# Altium footprint library LV1.PcbLib: 60 footprints (part 3 of 4)
Each footprint in its own frame and in the unit in brackets; x right, y up, seen from the top. Pads: shape width x height; smd on the part's side, far side on the other; paste and mask are expansions set on the pad; w line width, h text height; cw(c..) or ccw(c..) is an arc to the next point about the centre after c.
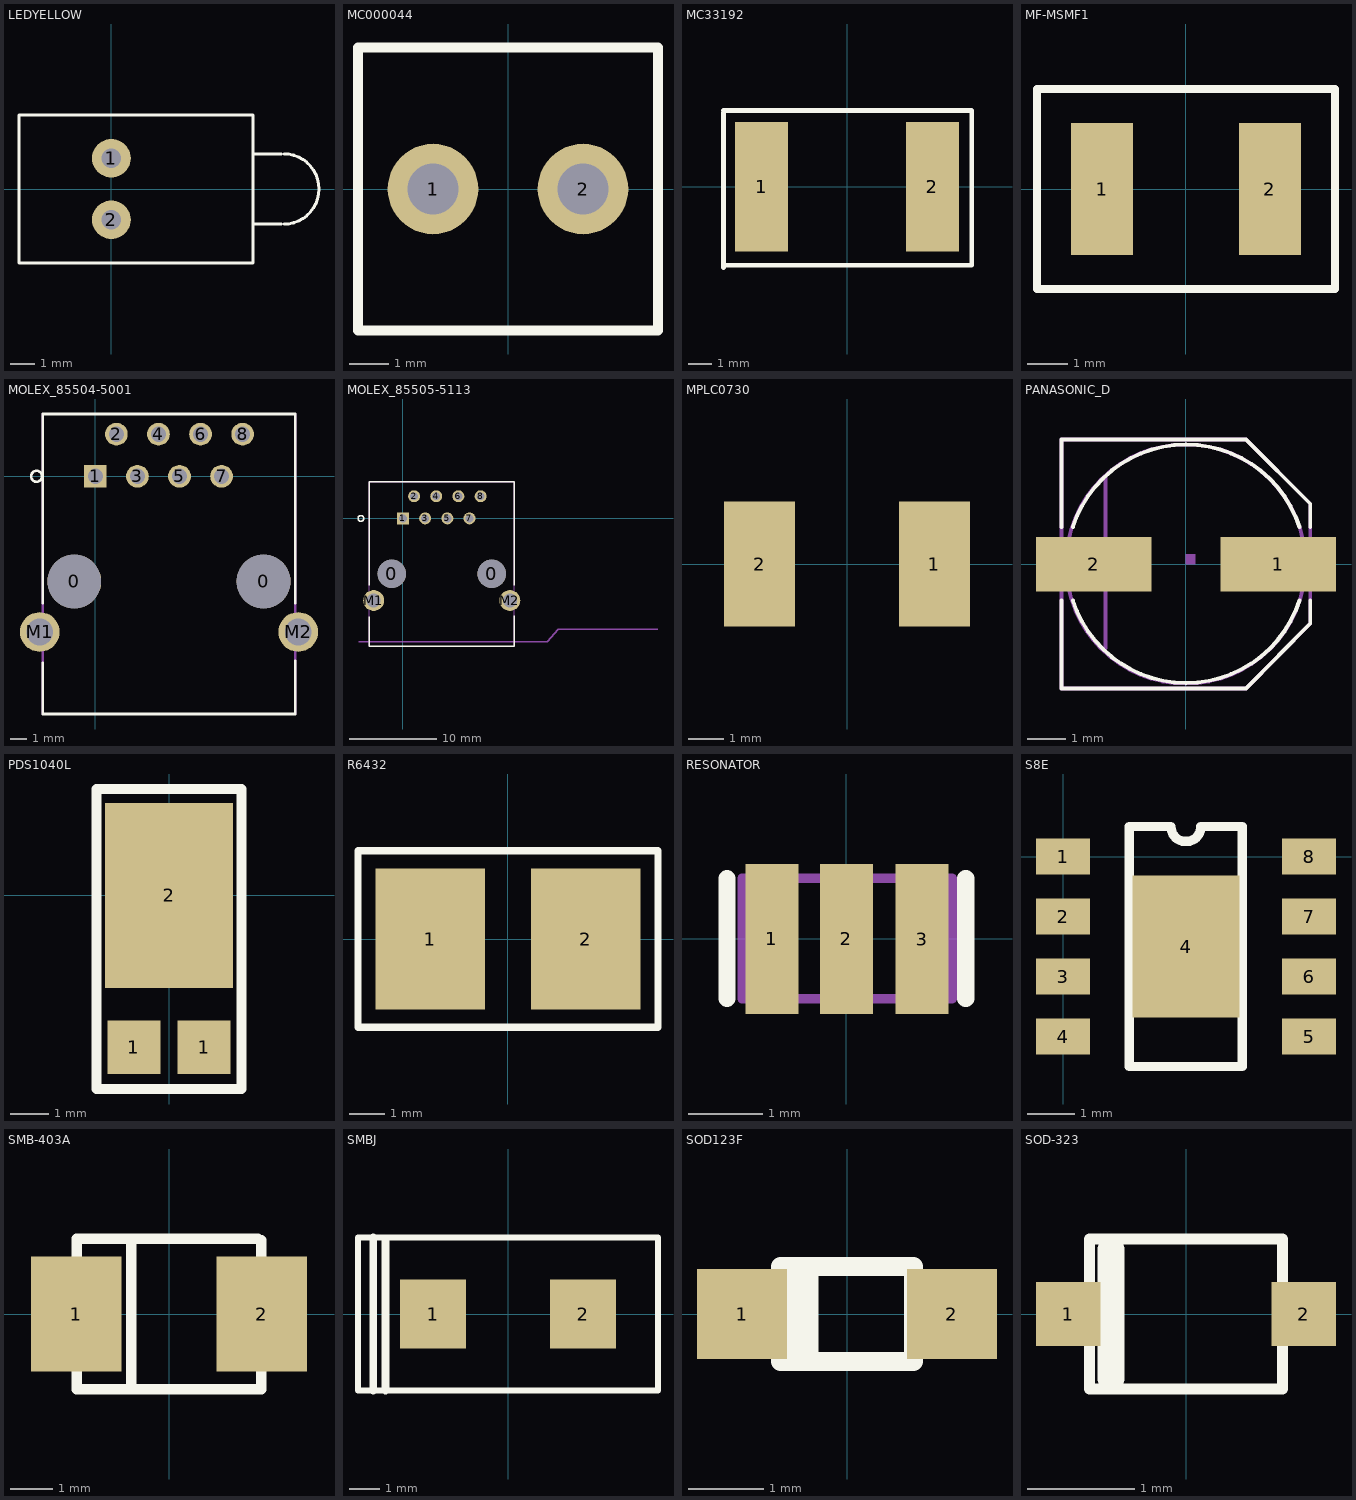
[diagram p2: the footprints below, top view; thin cyan lines are the x and y axes]

## LEDYELLOW [mm] "LED; 2 Leads"
pads (2):
  round 1.6 hole 0.8: 1(0,1.27) 2(0,-1.27)
Top Overlay:
  lines w0.127: 5.924,-1.45 7.024,-1.45 ; 5.924,1.45 7.024,1.45 ; 7.112,-1.45 ccw(c7.112,0) 7.112,1.45 ; -3.81,-3.048 5.842,-3.048 5.842,3.048 -3.81,3.048 -3.81,-3.048
3D body "5500407F_yellow.stp": height 5.97, standoff -3.68, extent -3.758,-3.048 8.636,2.921

## MC000044 [mm]
height 7.12
pads (2):
  round 2.3 hole 1.3: 1(-1.905,0) 2(1.905,0)
Top Overlay:
  lines w0.254: -3.81,-3.6 -3.81,3.6 3.81,3.6 3.81,-3.6 -3.81,-3.6

## MC33192 [mm]
pads (2):
  rect 2.3x5.6 smd: 1(-3.7,0) 2(3.7,0)
Top Overlay:
  lines w0.2: -5.35,-3.5 -5.35,-0.1 -5.35,3.2 ; -5.35,-3.4 5.4,-3.4 5.4,3.3 -5.35,3.3
3D body: height 0.5, standoff 0, extent -2.7,-2.8 2.7,2.8
3D body: height 0.5, standoff 0, extent -4.4,-2.8 -2.7,2.8
3D body: height 0.5, standoff 0, extent 2.7,-2.8 4.4,2.8

## MF-MSMF1 [mm]
height 7.12
pads (2):
  rect 1.55x3.3 smd: 1(-2.1,0) 2(2.1,0)
Top Overlay:
  lines w0.2: -3.725,-2.5 3.725,-2.5 3.725,2.5 -3.725,2.5 -3.725,0 -3.725,-2.5
3D body: height 0.5, standoff 0, extent -2.5,-1.6 -1.9,1.6
3D body: height 0.5, standoff 0, extent 1.9,-1.6 2.5,1.6
3D body: height 0.5, standoff 0, extent -2.1,-1.6 2.1,1.6

## MOLEX_85504-5001 [mil]
pads (12):
  round 128 hole 128: 0(-50,-250) 0(400,-250)
  rect 54x54 hole 36: 1(0,0)
  round 54 hole 36: 2(50,100) 3(100,0) 4(150,100) 5(200,0) 6(250,100) 7(300,0) 8(350,100)
  round 94.5 hole 63: M1(-131.89,-370.08) M2(482,-370.08)
Top Overlay:
  circle w6: c-139.76,0 r13
  lines w6: -125,-442.91 -125,-564.96 475,-564.96 475,-438.98 ; -125,-301.18 -125,148 -118.11,148 ; -120.08,148 -118.11,148 ; 475,-301.18 475,148 -118.11,148
Mechanical 2:
  text ">Name" at 44,180 h77.5
Mechanical 4:
  text ">Value" at 56,-637.8 h77.5
Mechanical 16:
  lines w5: -125,-564.96 -125,148 475,148 475,-564.96 -125,-564.96
3D body "855055113.stp": height 511.81, standoff -129.92, extent -156.77,-580.16 496.77,160

## MOLEX_85505-5113 [mil]
pads (12):
  round 128 hole 128: 0(-50,-250) 0(400,-250)
  rect 54x54 hole 36: 1(0,0)
  round 54 hole 36: 2(50,100) 3(100,0) 4(150,100) 5(200,0) 6(250,100) 7(300,0) 8(350,100)
  round 94.5 hole 63: M1(-131.89,-370.08) M2(482,-370.08)
Top Overlay:
  circle w6: c-189.76,0 r13
  lines w6: -151.77,-442.91 -151.77,-575.98 502,-575.98 502,-438.98 ; -151.77,-301.18 -151.77,165 -118.11,165 502,165 502,-301.18
Mechanical 2:
  text ">Name" at 44,180 h77.5
Mechanical 4:
  text ">Value" at 56,-637.8 h77.5
Mechanical 14:
  lines w6: -200,-557.09 650,-557.09 700,-500 1150,-500
  text "PCB Edge" at 750,-500 h77.5
Mechanical 16:
  lines w5: -151.77,-575.98 -151.77,165 502,165 502,-575.98 -151.77,-575.98
3D body "855055113.stp": height 511.81, standoff -129.92, extent -148.54,-580.08 505,160.08

## MPLC0730 [mm]
height 7.12
pads (2):
  rect 2x3.5 smd: 1(2.45,0) 2(-2.45,0)
3D body: height 2, standoff 0, extent -3.175,-2.667 3.175,2.794

## PANASONIC_D [mil]
height 280.31
pads (2):
  rect 119x56 smd: 1(95,0) 2(-94.49,0)
Top Overlay:
  lines w4: -127.95,-37.4 -127.95,-127.95 62,-127.95 128,-61.02 128,-37.4 ; -127.95,38 -127.95,128 62,128 128,62 128,38 ; -116.14,-37.4 ccw(c0.43,0.14) 117,-37.4 ; -116.14,38 cw(c0.43,0.46) 117,38
Mechanical 16:
  circle w4: c0,0 r123
  rectangle: -143.7,-13.78 -120.08,14
  rectangle: 121,-13.78 144,14
  region: 0,0 10,0 10,10 0,10
  lines w4: -82.68,-86.61 -82.68,89 ; -127.95,-127.95 62,-127.95 128,-61.02 128,62 62,128 -127.95,128 -127.95,-127.95
3D body: height 236.22, standoff 39.37, extent -119.68,-117.88 115.61,117.88
3D body: height 39.37, standoff 0, extent -130,-125 125,125

## PDS1040L [mm]
height 7.12
pads (3):
  rect 1.39x1.4 smd: 1(-0.92,-3.982) 1(0.92,-3.982)
  rect 3.36x4.86 smd: 2(0,0)
Top Overlay:
  lines w0.254: -1.905,-5.08 1.905,-5.08 1.905,2.794 -1.905,2.794 -1.905,-5.08
3D body: height 0.1, standoff 0, extent -1.397,0.762 1.397,2.286
3D body: height 0.1, standoff 0, extent -1.397,-4.064 -0.381,-2.032
3D body: height 0.1, standoff 0, extent 0.381,-4.064 1.397,-2.032
3D body: height 1, standoff 0, extent -1.524,-3.429 1.524,1.524

## R6432 [mm]
height 7.12
pads (2):
  rect 3.1x4 smd: 1(-2.2,0) 2(2.2,0)
Top Overlay:
  lines w0.2: -4.25,-2.5 4.25,-2.5 4.25,2.5 -4.25,2.5 -4.25,0 -4.25,-2.5
3D body: height 0.5, standoff 0, extent -3.2,-2 3.3,2

## RESONATOR [mil]
height 338.58
pads (3):
  rect 28x79 smd: 1(-39.37,0) 2(0,0) 3(40,0)
Top Overlay:
  lines w9: -62.99,-31.5 -62.99,32 ; 63,-31.5 63,32
Mechanical 16:
  lines w5: -55.12,-31.5 -55.12,32 56,32 56,-31.5 -55.12,-31.5

## S8E [mil]
height 338.58
pads (9):
  rect 45x30 smd: 1(0,0) 2(0,-50) 3(0,-100) 4(0,-150) 5(205,-150) 6(205,-100) 7(205,-50) 8(205,0)
  rect 89x118 smd: 4(102.5,-75)
Top Overlay:
  lines w7.87: 55.37,-175 55.37,25 89.92,25 ccw(c102.42,25) 114.92,25 149.47,25 149.47,-175 55.37,-175

## SMB-403A [mil]
pads (2):
  rect 85x107.99 smd: 1(-87.01,0) 2(87.01,0)
Top Overlay:
  lines w10: -86.61,-70.87 -86.61,69.29 ; -86.61,70.87 83.46,70.87 ; -83.46,-70.87 86.61,-70.87 86.61,69.29 ; -35.43,-70.87 -35.43,70.87
3D body: height 78.74, standoff 0, extent -82.68,-74.8 90.55,66.93

## SMBJ [mm]
pads (2):
  rect 2.16x2.26 smd: 1(-2.45,0) 2(2.45,0)
Top Overlay:
  lines w0.2: -4.9,-2.5 -4.9,0 -4.9,2.5 4.9,2.5 4.9,-2.5 -4.9,-2.5
  lines w0.254: -4.4,-2.5 -4.4,2.5 ; -4,-2.5 -4,2.4
3D body: height 2, standoff 0, extent -2.8,-2 2.9,2
3D body: height 0.5, standoff 0, extent -3.2,-1.1 -2.8,1.1
3D body: height 0.5, standoff 0, extent 2.9,-1.1 3.3,1.1

## SOD123F [mm]
height 7.12
pads (2):
  rect 1.2x1.2 smd: 1(-1.4,0) 2(1.4,0)
Top Overlay:
  rectangle: -1.016,-0.635 -0.381,0.635
  lines w0.254: -0.889,-0.635 0.889,-0.635 0.889,0.635 -0.889,0.635

## SOD-323 [mm]
pads (2):
  rect 0.6x0.6 smd: 1(-1.1,0) 2(1.1,0)
Top Overlay:
  lines w0.1: -0.9,-0.7 0.9,-0.7 0.9,0.7 -0.9,0.7 -0.9,-0.7
  lines w0.254: -0.7,-0.6 -0.7,0.6